# EAGLE library part USBLC6-2SC6 (library KVB-ICs)
TVS DIODE 5.25V 17V SOT23-6
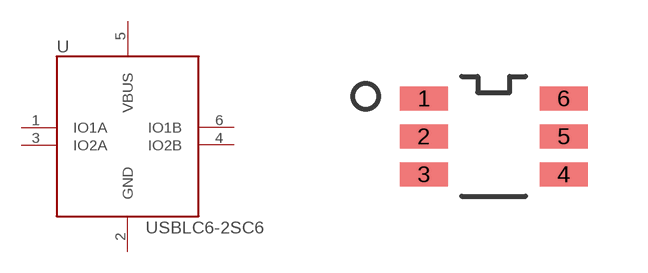
[diagram p15: symbol with the pads of USBLC6-2SC6; footprint USBLC6-2SC6]

Designator prefix U

## USBLC6-2SC6 (MAN-PART_NUM: USBLC6-2SC6; MANUFACTURER: STMicroelectronics)  [USBLC6-2SC6]
1  IO1A
2  GND
3  IO2A
4  IO2B
5  VBUS
6  IO1B

## Footprint USBLC6-2SC6 (pad centres in mm)
smd 1.2 x 0.6: 1 -1.75,0.95; 2 -1.75,0; 3 -1.75,-0.95; 4 1.75,-0.95; 5 1.75,0; 6 1.75,0.95